# Altium schematic symbol library 43860-0010_RJ45.SchLib: 1 symbol
Pins are listed as number, name and electrical type; pins without a type are passive.

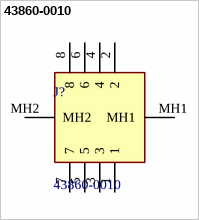
[diagram p0: symbol 43860-0010]

## 43860-0010
designator J?
Modular Jack Right Angle 8/8 RJ45 Invert Molex Cat3 RJ45 Modular Jack Socket, Right Angle, Through Hole 43860; Geometry.Height: 13.79mm; Mouser Part Number: 538-43860-0010; Mouser Price/Stock: https://www.mouser.co.uk/ProductDetail/Molex/43860-0010?qs=qjii0NTOo%252B4EzowI%2FkFJuQ%3D%3D; Manufacturer_Name: Molex; Manufacturer_Part_Number: 43860-0010; Datasheet Link: https://www.molex.com/webdocs/datasheets/pdf/en-us/0438600010_MODULAR_JACKS_PLUG.pdf
footprint 438600010
pins: 1, 2, 3, 4, 5, 6, 7, 8, MH1, MH2